# EAGLE library part M24512 (library lpatiny)
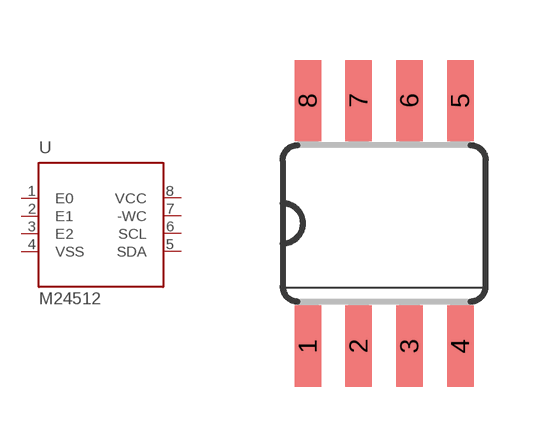
[diagram p21: symbol with the pads of SO8; footprint SO8]

Designator prefix -

## M24512  [SO8]
1  E0
2  E1
3  E2
4  VSS  pwr
5  SDA
6  SCL
7  -WC
8  VCC  pwr

## Footprint SO8 (pad centres in mm)
smd 0.66 x 2.032: 1 -3.81,-3.073; 2 -2.54,-3.073; 3 -1.27,-3.073; 4 0,-3.073; 5 0,3.073; 6 -1.27,3.073; 7 -2.54,3.073; 8 -3.81,3.073